# Altium schematic symbol library SP3485.SchLib: 1 symbol
Pins are listed as number, name and electrical type; pins without a type are passive.

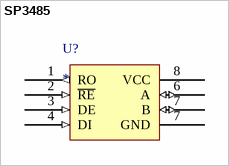
[diagram p0: symbol SP3485]

## SP3485
designator U?
pins: 1 RO (out), 2 ~{RE} (in), 3 DE (in), 4 DI (in), 6 A (io), 7 B (io), 7 GND (power), 8 VCC (power)